# Altium integrated library TPSM843321RCJR.IntLib: 1 symbol
Pins are listed as number, name and electrical type; pins without a type are passive.

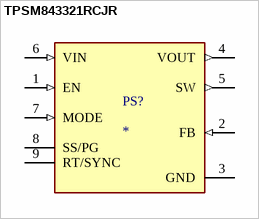
[diagram p0: symbol TPSM843321RCJR]

## TPSM843321RCJR
designator PS?
Non-Isolated PoL Module DC DC Converter 1 Output 5V 3A 3.8V - 18V Input; MF: Texas Instruments; MP: TPSM843321RCJR; SnapEDA_Link: https://www.snapeda.com/parts/TPSM843321RCJR/Texas+Instruments/view-part/?ref=snap; Package: None; Value: *; Check_prices: https://www.snapeda.com/parts/TPSM843321RCJR/Texas+Instruments/view-part/?ref=eda
footprint MODULE_TPSM843321RCJR
pins: 1 EN (in), 2 FB (in), 3 GND (power), 4 VOUT (out), 5 SW (out), 6 VIN (in), 7 MODE (in), 8 SS/PG, 9 RT/SYNC